# EAGLE library part SIMHOLDER2 (library CSEDIT-SparkFun-Old)
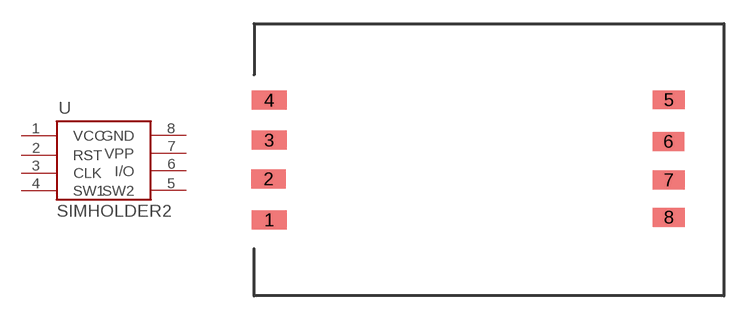
[diagram p137: symbol with the pads of SIMHOLDER2; footprint SIMHOLDER2]

Designator prefix -

## SIMHOLDER2  [SIMHOLDER2]
1  VCC
2  RST
3  CLK
4  SW1
5  SW2
6  I/O
7  VPP
8  GND

## Footprint SIMHOLDER2 (pad centres in mm)
smd 2.2 x 1.2: 1 0.95,4.81; 2 0.91,7.41; 3 0.95,9.86; 4 0.95,12.39
smd 2 x 1.2: 5 26.22,12.42; 6 26.2,9.78; 7 26.22,7.34; 8 26.22,4.98